# Altium footprint library library.PcbLib: 385 footprints (part 5 of 25)
Each footprint in its own frame and in the unit in brackets; x right, y up, seen from the top. Pads: shape width x height; smd on the part's side, far side on the other; paste and mask are expansions set on the pad; w line width, h text height; cw(c..) or ccw(c..) is an arc to the next point about the centre after c.
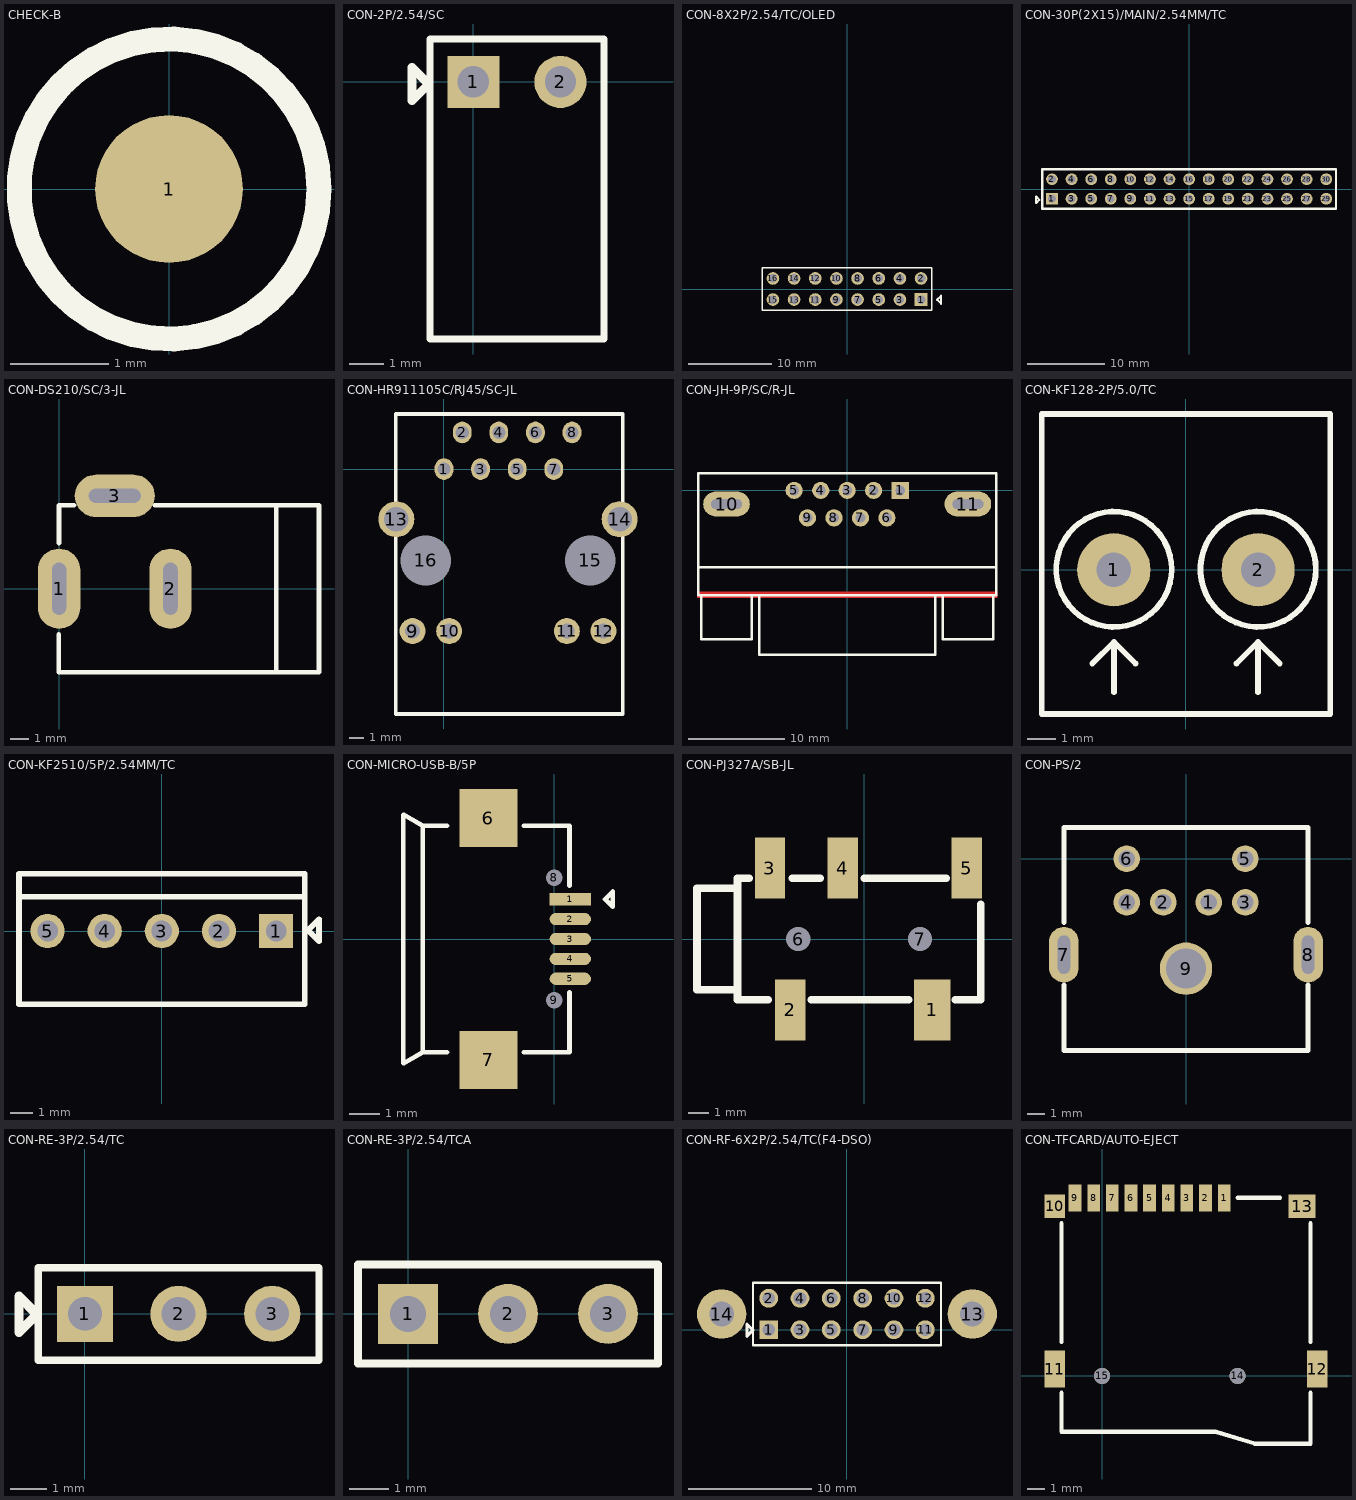
[diagram p4: the footprints below, top view; thin cyan lines are the x and y axes]

## CHECK-B [mm] "Connector; Plug"
height 1.45
pads (1):
  round 1.5 smd: 1(0,0)
Top Overlay:
  circle w0.254: c0,0 r1.524

## CON-2P/2.54/SC [mil]
pads (2):
  rect 60x60 hole 36: 1(0,0)
  round 60 hole 36: 2(100,0)
Top Overlay:
  lines w7.87: -50,-295.28 150,-295.28 150,49.29 -50,49.29 -50,-295.28
  lines w10: -70.47,-21.65 -51.28,-2.46 -51.28,-1.97 -51.77,-1.97 -70.47,16.73 -70.47,-21.65

## CON-8X2P/2.54/TC/OLED [mil]
pads (16):
  rect 60x60 / inner round 60 / far side round 60 hole 40: 1(350,-50)
  round 60 hole 40: 2(350,50) 3(250,-50) 4(250,50) 5(150,-50) 6(150,50) 7(50,-50) 8(50,50) 9(-50,-50) 10(-50,50) 11(-150,-50) 12(-150,50) 13(-250,-50) 14(-250,50) 16(-350,50)
  round 60 / inner rect 60x60 / far side rect 60x60 hole 40: 15(-350,-50)
Top Overlay:
  lines w7.87: -400,-100 -400,100 400,100 400,-100 -400,-100
  lines w10: 425.49,-50.79 425.49,-50.3 444.68,-31.1 444.68,-69.49 425.98,-50.79 425.49,-50.79
Drill Drawing:
  lines w10: -708.66,-118.11 708.66,-118.11 708.66,1062.99 -708.66,1062.99 -708.66,-118.11

## CON-30P(2X15)/MAIN/2.54MM/TC [mil]
pads (30):
  rect 60x60 hole 40: 1(-700,-50)
  round 60 hole 40: 2(-700,50) 3(-600,-50) 4(-600,50) 5(-500,-50) 6(-500,50) 7(-400,-50) 8(-400,50) 9(-300,-50) 10(-300,50) 11(-200,-50) 12(-200,50) 13(-100,-50) 14(-100,50) 15(0,-50) 16(0,50) 17(100,-50) 18(100,50) 19(200,-50) 20(200,50) 21(300,-50) 22(300,50) 23(400,-50) 24(400,50) 25(500,-50) 26(500,50) 27(600,-50) 28(600,50) 29(700,-50) 30(700,50)
Top Overlay:
  lines w10: -781.63,-71.14 -780.22,-68.31 -780.22,-71.61 -764.04,-55.43 -781.63,-37.83 -781.63,-71.14
  lines w12: -750,-100 750,-100 750,100 -750,100 -750,-100

## CON-DS210/SC/3-JL [mil]
pads (3):
  oval 90x170 hole 30 slot 110 at 90 deg: 1(0,0) 2(236.22,0)
  oval 170x90 hole 30 slot 110 at 0 deg: 3(118.11,196.85)
Top Overlay:
  lines w10: -0.89,-96.46 -0.89,-177.16 551.18,-177.16 551.18,177.16 202.76,177.16 ; -0.04,96.46 -0.04,176.78 31.5,176.78 ; 460.63,-171.73 460.63,176.27

## CON-HR911105C/RJ45/SC-JL [mm]
pads (16):
  oval 1.3x1.5 hole 0.914: 1(0,0) 2(1.27,2.54) 3(2.54,0) 4(3.81,2.54) 5(5.08,0) 6(6.35,2.54) 7(7.62,0) 8(8.89,2.54)
  round 1.8 hole 1.04: 9(-2.18,-11.25) 10(0.36,-11.25) 11(8.53,-11.25) 12(11.07,-11.25)
  round 2.5 hole 1.702: 13(-3.305,-3.48) 14(12.195,-3.48)
  round 2 hole 3.5 unplated: 15(10.16,-6.35) 16(-1.27,-6.35)
Top Overlay:
  lines w0.254: -3.34,-17.007 12.408,-17.007 12.408,3.821 -3.34,3.821 -3.34,-17.007
Top Paste:
  lines w0.6: 1.266,-0.939 1.266,0.945 ; 2.49,1.59 2.49,3.491 ; 3.806,-0.939 3.806,0.945 ; 5.03,1.59 5.03,3.491 ; 6.346,-0.939 6.346,0.945 ; 7.57,1.59 7.57,3.491
  lines w0.9: -0.486,1.26 9.383,1.26

## CON-JH-9P/SC/R-JL [mil]
pads (11):
  rect 70x70 hole 40: 1(216.14,0)
  round 70 hole 40: 2(107.87,0) 3(0,0) 4(-107.87,0) 5(-216.14,0) 6(161.81,-111.81) 7(53.94,-111.81) 8(-53.94,-111.81) 9(-161.81,-111.81)
  oval 190x102.36 hole 39.37 slot 125.98 at 0 deg: 10(-491.93,-55.91) 11(491.93,-55.91)
Top Layer:
  pour cut-out: -612.17,-412.52 610.39,-412.52 610.39,-437.72 -612.17,-437.72
Top Overlay:
  lines w10: 606.5,-426.77 606.5,-312.84 -606.65,-312.84 -606.65,-426.77 606.5,-426.77 ; 606.5,-426.77 -606.5,-426.77 -606.5,70.08 606.5,70.08 606.5,-426.77 ; -594.29,-606.3 -594.29,-426.77 -389.57,-426.77 -389.57,-606.3 -594.29,-606.3 ; -358.27,-670.08 -358.27,-426.77 358.27,-426.77 358.27,-670.08 -358.27,-670.08 ; 389.57,-606.3 389.57,-426.77 594.29,-426.77 594.29,-606.3 389.57,-606.3

## CON-KF128-2P/5.0/TC [mm]
pads (2):
  round 2.54 / inner rect 2.54x2.54 / far side rect 2.54x2.54 hole 1.2: 1(-2.5,0)
  round 2.54 hole 1.2: 2(2.5,0)
Top Overlay:
  circle w0.2: c2.502,0.017 r2
  circle w0.2: c-2.498,0.017 r2
  lines w0.2: -3.25,-3.25 -2.5,-2.5 ; -2.5,-4.25 -2.5,-2.5 ; -1.75,-3.25 -2.5,-2.5 ; 1.75,-3.25 2.5,-2.5 ; 2.5,-4.25 2.5,-2.5 ; 3.25,-3.25 2.5,-2.5 ; -5,-5 5,-5 5,5.4 -5,5.4 -5,-5

## CON-KF2510/5P/2.54MM/TC [mil]
pads (5):
  rect 60x60 hole 36: 1(200,0)
  round 60 hole 36: 2(100,0) 3(0,0) 4(-100,0) 5(-200,0)
Top Overlay:
  lines w10: -250,60 250,60 ; -250,-128 -250,100 250,100 250,-128 -250,-128 ; 255.89,0.91 256.38,0.91 275.08,-17.8 275.08,20.59 255.89,1.4 255.89,0.91

## CON-MICRO-USB-B/5P [mm]
pads (9):
  rect 1.35x0.4 smd: 1(0.525,1.3)
  oval 1.35x0.4 smd: 2(0.525,0.65) 3(0.525,0) 4(0.525,-0.65) 5(0.525,-1.3)
  rect 1.9x1.9 smd: 6(-2.15,3.95) 7(-2.15,-3.95)
  round 0.5 hole 0.55 unplated: 8(0,2) 9(0,-2)
Top Overlay:
  lines w0.152: -4.93,-4.05 -4.93,4.05 ; -4.9,-4.05 -4.3,-3.7 ; -4.9,4.05 -4.3,3.7 ; -3.5,-3.7 -4.3,-3.7 ; -3.5,3.7 -4.3,3.7 ; -1,-3.7 0.5,-3.7 0.5,-1.75 ; -1,3.7 0.5,3.7 0.5,1.75 ; -4.3,-3.7 -4.3,3.7 ; 1.66,1.3 1.91,1.05 1.91,1.55 1.66,1.3

## CON-PJ327A/SB-JL [mm]
pads (7):
  rect 1.8x3 smd: 1(3.35,-3.5)
  rect 1.5x3 smd: 2(-3.65,-3.5) 3(-4.65,3.5) 4(-1.05,3.5) 5(5.05,3.5)
  round 1.15 hole 1.2 unplated: 6(-3.25,0) 7(2.75,0)
Top Overlay:
  lines w0.381: -6.295,-2.5 -8.25,-2.5 -8.25,2.5 -6.25,2.5 ; -6.25,-3 -6.25,3 -5.67,3 ; -6.2,-3 -4.75,-3 ; -3.55,3 -2.18,3 ; -2.6,-3 2.2,-3 ; 0,3 4.04,3 ; 4.5,-3 5.75,-3 5.75,1.7

## CON-PS/2 [mil]
pads (9):
  round 60 hole 37: 1(51.18,-98.43) 2(-51.18,-98.43) 3(133.86,-98.43) 4(-133.86,-98.43) 5(133.86,0) 6(-133.86,0)
  oval 66.93x125.98 hole 27.56 slot 86.61 at 90 deg: 7(-275.59,-216.54) 8(275.59,-216.54)
  round 118 hole 90: 9(0,-248.03)
Top Overlay:
  lines w11.81: -275.59,-285.11 -275.59,-433.07 275.59,-433.07 275.59,-285.11 ; -275.59,-143.69 -275.59,70.87 275.59,70.87 275.59,-143.69

## CON-RE-3P/2.54/TC [mil]
pads (3):
  rect 60x60 hole 36: 1(0,0)
  round 60 hole 36: 2(100,0) 3(200,0)
Top Overlay:
  lines w7.87: -50,-49.53 250,-49.53 250,49.25 -50,49.25 -50,-49.53
  lines w10: -70.47,-19.68 -51.28,-0.49 -51.28,0 -51.77,0 -70.47,18.7 -70.47,-19.68

## CON-RE-3P/2.54/TCA [mil]
pads (3):
  rect 60x60 hole 36: 1(0,0)
  round 60 hole 36: 2(100,0) 3(200,0)
Top Overlay:
  lines w7.87: -50,-49.53 250,-49.53 250,49.25 -50,49.25 -50,-49.53

## CON-RF-6X2P/2.54/TC(F4-DSO) [mil]
pads (14):
  rect 60x60 hole 40: 1(-250,0)
  round 60 hole 40: 2(-250,100) 3(-150,0) 4(-150,100) 5(-50,0) 6(-50,100) 7(50,0) 8(50,100) 9(150,0) 10(150,100) 11(250,0) 12(250,100)
  round 157.48 hole 78.74: 13(400,50) 14(-400,50)
Top Overlay:
  lines w7.87: -300,-50 300,-50 300,150 -300,150 -300,-50
  lines w10: -319.69,-20.87 -300.49,-1.67 -300.49,-1.18 -300.98,-1.18 -319.69,17.52 -319.69,-20.87

## CON-TFCARD/AUTO-EJECT [mm]
pads (15):
  rect 0.75x1.6 smd: 1(7.2,10.5) 2(6.1,10.5) 3(5,10.5) 4(3.9,10.5) 5(2.8,10.5) 6(1.7,10.5) 7(0.6,10.5) 8(-0.5,10.5) 9(-1.6,10.5)
  rect 1.2x1.4 smd: 10(-2.8,10)
  rect 1.2x2.2 smd: 11(-2.8,0.4) 12(12.7,0.4)
  rect 1.6x1.4 smd: 13(11.8,10)
  round 0.95 hole 0.95 unplated: 14(8,0) 15(0,0)
Top Overlay:
  lines w0.254: -2.4,-1 -2.4,-3.3 6.7,-3.3 9,-4 12.3,-4 12.3,-1 ; -2.4,2 -2.4,9 ; 8,10.5 10.5,10.5 ; 12.3,2 12.3,9